# Altium footprint library WSM-BL241-ADA-008.PcbLib: 2 footprints
Each footprint in its own frame and in the unit in brackets; x right, y up, seen from the top. Pads: shape width x height; smd on the part's side, far side on the other; paste and mask are expansions set on the pad; w line width, h text height; cw(c..) or ccw(c..) is an arc to the next point about the centre after c.
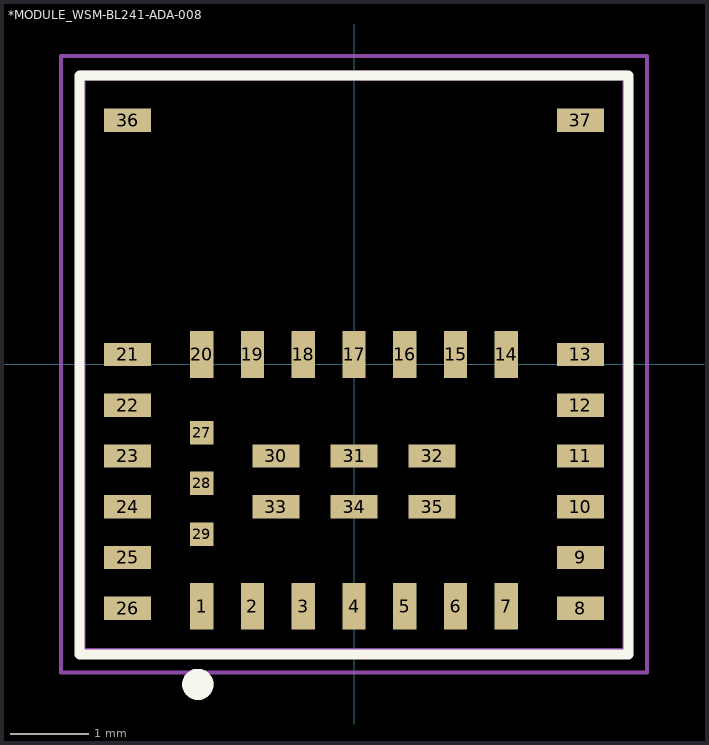
[diagram p0: the footprints below, top view; thin cyan lines are the x and y axes]

## *MODULE_WSM-BL241-ADA-008 [mm]
pads (37):
  rect 0.3x0.6 smd: 1(-1.95,-3.1) 2(-1.3,-3.1) 3(-0.65,-3.1) 4(0,-3.1) 5(0.65,-3.1) 6(1.3,-3.1) 7(1.95,-3.1) 14(1.95,0.125) 15(1.3,0.125) 16(0.65,0.125) 17(0,0.125) 18(-0.65,0.125) 19(-1.3,0.125) 20(-1.95,0.125)
  rect 0.6x0.3 smd: 8(2.9,-3.125) 9(2.9,-2.475) 10(2.9,-1.825) 11(2.9,-1.175) 12(2.9,-0.525) 13(2.9,0.125) 21(-2.9,0.125) 22(-2.9,-0.525) 23(-2.9,-1.175) 24(-2.9,-1.825) 25(-2.9,-2.475) 26(-2.9,-3.125) 30(-1,-1.175) 31(0,-1.175) 32(1,-1.175) 33(-1,-1.825) 34(0,-1.825) 35(1,-1.825) 36(-2.9,3.125) 37(2.9,3.125)
  rect 0.3x0.3 smd: 27(-1.95,-0.875) 28(-1.95,-1.525) 29(-1.95,-2.175)
Top Overlay:
  circle w0.2: c-2,-4.1 r0.1
  lines w0.127: -3.515,-3.715 -3.515,3.7 3.515,3.7 3.515,-3.715 -3.515,-3.715
Mechanical 4:
  circle w0.2: c-2,-4.1 r0.1
  circle w0.2: c-2,-4.1 r0.1
  lines w0.127: -3.5,-3.7 3.5,-3.7 ; -3.5,-3.7 -3.5,3.7 ; -3.5,-3.7 3.5,-3.7 ; -3.5,-3.7 -3.5,3.7 ; -3.5,3.7 3.5,3.7 ; -3.5,3.7 3.5,3.7 ; 3.5,-3.7 3.5,3.7 ; 3.5,-3.7 3.5,3.7
Mechanical 16:
  lines w0.05: -3.75,-3.95 3.75,-3.95 3.75,3.95 -3.75,3.95 -3.75,-3.95

## PCBComponent_1 [mm]